# EAGLE library part MIKROBUS_SOCKET (library 2021-07-02 OrangeHat Library)
MikroBUS Socket PCB side socket for MikroBUS Click Boards
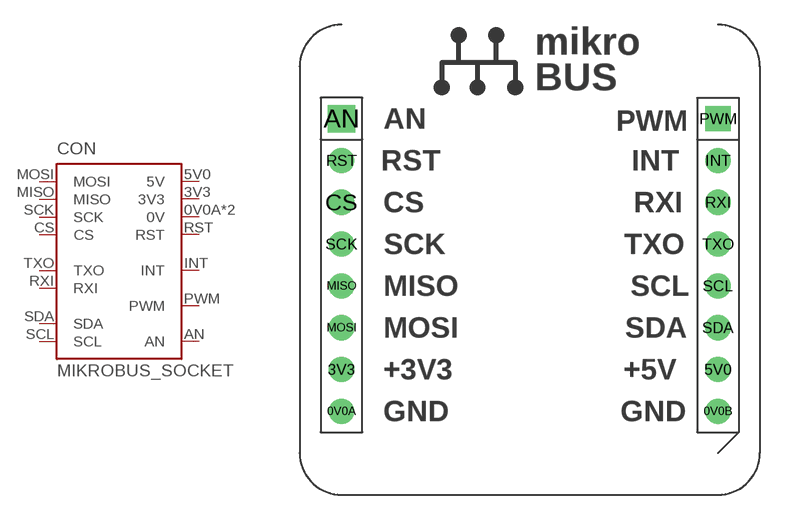
[diagram p11: symbol with the pads of MIKROBUS_SOCKET; footprint MIKROBUS_SOCKET]

Designator prefix CON

## MIKROBUS_SOCKET  [MIKROBUS_SOCKET]
0V0A  0V  pwr
0V0B  0V  pwr
3V3  3V3  pwr
5V0  5V  pwr
AN  AN  pas
CS  CS
INT  INT
MISO  MISO
MOSI  MOSI
PWM  PWM
RST  RST  in
RXI  RXI
SCK  SCK
SCL  SCL
SDA  SDA
TXO  TXO

## Footprint MIKROBUS_SOCKET (pad centres in mm)
MikroBUS Socket MikroBUS Socket PCB footprint
drill 0.889 pad 1.524: 0V0A 0,-17.78; 0V0B 22.86,-17.78; 3V3 0,-15.24; 5V0 22.86,-15.24; CS 0,-5.08; INT 22.86,-2.54; MISO 0,-10.16; MOSI 0,-12.7; RST 0,-2.54; RXI 22.86,-5.08; SCK 0,-7.62; SCL 22.86,-10.16; SDA 22.86,-12.7; TXO 22.86,-7.62
drill 0.889 pad 1.676 square: AN 0,0
drill 0.889 pad 1.524 square: PWM 22.86,0